# Altium schematic symbol library SCH - DRIVER - LED - TI LM3429PWP.SchLib: 1 symbol
Pins are listed as number, name and electrical type; pins without a type are passive.

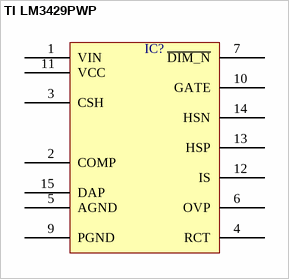
[diagram p0: symbol TI LM3429PWP]

## TI LM3429PWP
designator IC?  (value not drawn)
pins: 1 VIN, 2 COMP, 3 CSH, 4 RCT, 5 AGND, 6 OVP, 7 ~{DIM_N}, 9 PGND, 10 GATE, 11 VCC, 12 IS, 13 HSP, 14 HSN, 15 DAP